# Altium schematic symbol library DIODE.SchLib: 1 symbol
Pins are listed as number, name and electrical type; pins without a type are passive.

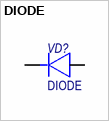
[diagram p0: symbol DIODE]

## DIODE
designator VD?
Generic Diode; Потребление, Вт: 0.0; Назначение: Generic Diode; Наименование: DIODE
footprint SOD-123
footprint DO-35
pins: 1, 2